# Altium footprint library Components - 29.10.25 - 16.30.PcbLib: 4 footprints
Each footprint in its own frame and in the unit in brackets; x right, y up, seen from the top. Pads: shape width x height; smd on the part's side, far side on the other; paste and mask are expansions set on the pad; w line width, h text height; cw(c..) or ccw(c..) is an arc to the next point about the centre after c.
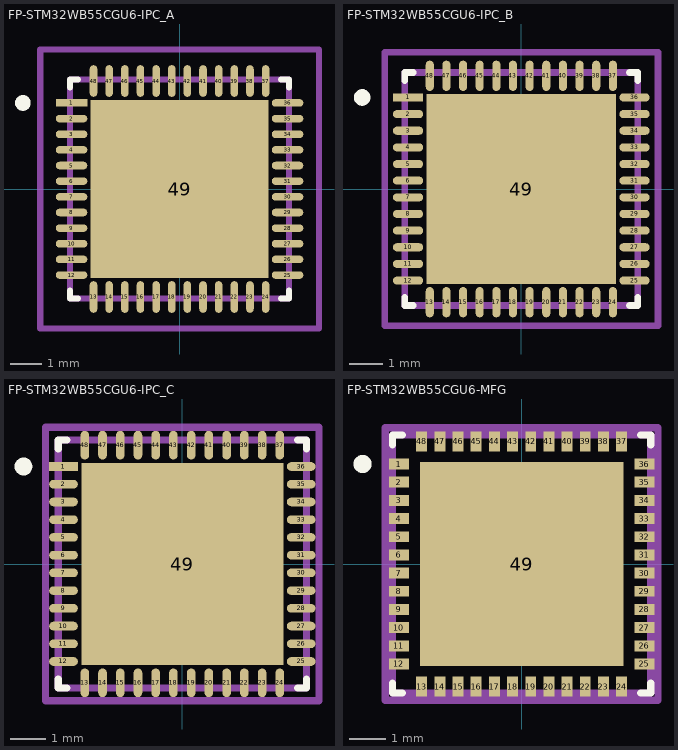
[diagram p0: the footprints below, top view; thin cyan lines are the x and y axes]

## FP-STM32WB55CGU6-IPC_A [mm]
pads (49):
  rect 1.01x0.242 smd paste+0 mask+0: 1(-3.451,2.75)
  rrect100% 1.01x0.242 smd paste+0 mask+0: 2(-3.451,2.25) 3(-3.451,1.75) 4(-3.451,1.25) 5(-3.451,0.75) 6(-3.451,0.25) 7(-3.451,-0.25) 8(-3.451,-0.75) 9(-3.451,-1.25) 10(-3.451,-1.75) 11(-3.451,-2.25) 12(-3.451,-2.75) 25(3.451,-2.75) 26(3.451,-2.25) 27(3.451,-1.75) 28(3.451,-1.25) 29(3.451,-0.75) 30(3.451,-0.25) 31(3.451,0.25) 32(3.451,0.75) 33(3.451,1.25) 34(3.451,1.75) 35(3.451,2.25) 36(3.451,2.75)
  rrect100% 0.242x1.01 smd paste+0 mask+0: 13(-2.75,-3.451) 14(-2.25,-3.451) 15(-1.75,-3.451) 16(-1.25,-3.451) 17(-0.75,-3.451) 18(-0.25,-3.451) 19(0.25,-3.451) 20(0.75,-3.451) 21(1.25,-3.451) 22(1.75,-3.451) 23(2.25,-3.451) 24(2.75,-3.451) 37(2.75,3.451) 38(2.25,3.451) 39(1.75,3.451) 40(1.25,3.451) 41(0.75,3.451) 42(0.25,3.451) 43(-0.25,3.451) 44(-0.75,3.451) 45(-1.25,3.451) 46(-1.75,3.451) 47(-2.25,3.451) 48(-2.75,3.451)
  rect 5.7x5.7 smd paste-1000 mask+0: 49(0,0)
Top Overlay:
  circle w0.25: c-5.006,2.75 r0.125
  lines w0.2: -3.5,-3.25 -3.5,-3.5 -3.25,-3.5 ; -3.5,3.25 -3.5,3.5 -3.25,3.5 ; 3.25,-3.5 3.5,-3.5 3.5,-3.25 ; 3.25,3.5 3.5,3.5 3.5,3.25
Top Paste:
  rectangle: -2.152,0.349 -0.349,2.152
  rectangle: 0.349,0.349 2.152,2.152
  rectangle: -2.152,-2.152 -0.349,-0.349
  rectangle: 0.349,-2.152 2.152,-0.349
Top Assembly:
  lines w0.2: -4.456,-4.456 4.456,-4.456 4.456,4.456 -4.456,4.456 -4.456,-4.456
  text ".Designator" at 0,-0.001 h1
Top 3D Body:
  lines w0.2: -3.5,-3.5 3.5,-3.5 3.5,3.5 -3.5,3.5 -3.5,-3.5
Top Courtyard:
  lines w0.2: -4.456,-4.456 4.456,-4.456 4.456,4.456 -4.456,4.456 -4.456,-4.456
Top Component Center:
  lines w0.1: -0.5,0 0.5,0 ; 0,-0.5 0,0.5
3D body "IC_STMicroelectronics_STM32WB55CGU6_eec.STEP": height 0.25, standoff 0, extent -4.456,-4.456 4.456,4.456

## FP-STM32WB55CGU6-IPC_B [mm]
pads (49):
  rect 0.91x0.242 smd paste+0 mask+0: 1(-3.401,2.75)
  rrect100% 0.91x0.242 smd paste+0 mask+0: 2(-3.401,2.25) 3(-3.401,1.75) 4(-3.401,1.25) 5(-3.401,0.75) 6(-3.401,0.25) 7(-3.401,-0.25) 8(-3.401,-0.75) 9(-3.401,-1.25) 10(-3.401,-1.75) 11(-3.401,-2.25) 12(-3.401,-2.75) 25(3.401,-2.75) 26(3.401,-2.25) 27(3.401,-1.75) 28(3.401,-1.25) 29(3.401,-0.75) 30(3.401,-0.25) 31(3.401,0.25) 32(3.401,0.75) 33(3.401,1.25) 34(3.401,1.75) 35(3.401,2.25) 36(3.401,2.75)
  rrect100% 0.242x0.91 smd paste+0 mask+0: 13(-2.75,-3.401) 14(-2.25,-3.401) 15(-1.75,-3.401) 16(-1.25,-3.401) 17(-0.75,-3.401) 18(-0.25,-3.401) 19(0.25,-3.401) 20(0.75,-3.401) 21(1.25,-3.401) 22(1.75,-3.401) 23(2.25,-3.401) 24(2.75,-3.401) 37(2.75,3.401) 38(2.25,3.401) 39(1.75,3.401) 40(1.25,3.401) 41(0.75,3.401) 42(0.25,3.401) 43(-0.25,3.401) 44(-0.75,3.401) 45(-1.25,3.401) 46(-1.75,3.401) 47(-2.25,3.401) 48(-2.75,3.401)
  rect 5.7x5.7 smd paste-1000 mask+0: 49(0,0)
Top Overlay:
  circle w0.25: c-4.781,2.75 r0.125
  lines w0.2: -3.5,-3.25 -3.5,-3.5 -3.25,-3.5 ; -3.5,3.25 -3.5,3.5 -3.25,3.5 ; 3.25,-3.5 3.5,-3.5 3.5,-3.25 ; 3.25,3.5 3.5,3.5 3.5,3.25
Top Paste:
  rectangle: -2.152,0.349 -0.349,2.152
  rectangle: 0.349,0.349 2.152,2.152
  rectangle: -2.152,-2.152 -0.349,-0.349
  rectangle: 0.349,-2.152 2.152,-0.349
Top Assembly:
  lines w0.2: -4.106,-4.106 4.106,-4.106 4.106,4.106 -4.106,4.106 -4.106,-4.106
  text ".Designator" at 0,-0.001 h1
Top 3D Body:
  lines w0.2: -3.5,-3.5 3.5,-3.5 3.5,3.5 -3.5,3.5 -3.5,-3.5
Top Courtyard:
  lines w0.2: -4.106,-4.106 4.106,-4.106 4.106,4.106 -4.106,4.106 -4.106,-4.106
Top Component Center:
  lines w0.1: -0.5,0 0.5,0 ; 0,-0.5 0,0.5
3D body "IC_STMicroelectronics_STM32WB55CGU6_eec.STEP": height 0.25, standoff 0, extent -4.106,-4.106 4.106,4.106

## FP-STM32WB55CGU6-IPC_C [mm]
pads (49):
  rect 0.81x0.242 smd paste+0 mask+0: 1(-3.351,2.75)
  rrect100% 0.81x0.242 smd paste+0 mask+0: 2(-3.351,2.25) 3(-3.351,1.75) 4(-3.351,1.25) 5(-3.351,0.75) 6(-3.351,0.25) 7(-3.351,-0.25) 8(-3.351,-0.75) 9(-3.351,-1.25) 10(-3.351,-1.75) 11(-3.351,-2.25) 12(-3.351,-2.75) 25(3.351,-2.75) 26(3.351,-2.25) 27(3.351,-1.75) 28(3.351,-1.25) 29(3.351,-0.75) 30(3.351,-0.25) 31(3.351,0.25) 32(3.351,0.75) 33(3.351,1.25) 34(3.351,1.75) 35(3.351,2.25) 36(3.351,2.75)
  rrect100% 0.242x0.81 smd paste+0 mask+0: 13(-2.75,-3.351) 14(-2.25,-3.351) 15(-1.75,-3.351) 16(-1.25,-3.351) 17(-0.75,-3.351) 18(-0.25,-3.351) 19(0.25,-3.351) 20(0.75,-3.351) 21(1.25,-3.351) 22(1.75,-3.351) 23(2.25,-3.351) 24(2.75,-3.351) 37(2.75,3.351) 38(2.25,3.351) 39(1.75,3.351) 40(1.25,3.351) 41(0.75,3.351) 42(0.25,3.351) 43(-0.25,3.351) 44(-0.75,3.351) 45(-1.25,3.351) 46(-1.75,3.351) 47(-2.25,3.351) 48(-2.75,3.351)
  rect 5.7x5.7 smd paste-1000 mask+0: 49(0,0)
Top Overlay:
  circle w0.25: c-4.481,2.75 r0.125
  lines w0.2: -3.5,-3.25 -3.5,-3.5 -3.25,-3.5 ; -3.5,3.25 -3.5,3.5 -3.25,3.5 ; 3.25,-3.5 3.5,-3.5 3.5,-3.25 ; 3.25,3.5 3.5,3.5 3.5,3.25
Top Paste:
  rectangle: -2.152,0.349 -0.349,2.152
  rectangle: 0.349,0.349 2.152,2.152
  rectangle: -2.152,-2.152 -0.349,-0.349
  rectangle: 0.349,-2.152 2.152,-0.349
Top Assembly:
  lines w0.2: -3.856,-3.856 3.856,-3.856 3.856,3.856 -3.856,3.856 -3.856,-3.856
  text ".Designator" at 0,-0.001 h1
Top 3D Body:
  lines w0.2: -3.5,-3.5 3.5,-3.5 3.5,3.5 -3.5,3.5 -3.5,-3.5
Top Courtyard:
  lines w0.2: -3.856,-3.856 3.856,-3.856 3.856,3.856 -3.856,3.856 -3.856,-3.856
Top Component Center:
  lines w0.1: -0.5,0 0.5,0 ; 0,-0.5 0,0.5
3D body "IC_STMicroelectronics_STM32WB55CGU6_eec.STEP": height 0.25, standoff 0, extent -3.856,-3.856 3.856,3.856

## FP-STM32WB55CGU6-MFG [mm]
pads (49):
  rect 0.55x0.3 smd paste+0 mask+0: 1(-3.375,2.75) 2(-3.375,2.25) 3(-3.375,1.75) 4(-3.375,1.25) 5(-3.375,0.75) 6(-3.375,0.25) 7(-3.375,-0.25) 8(-3.375,-0.75) 9(-3.375,-1.25) 10(-3.375,-1.75) 11(-3.375,-2.25) 12(-3.375,-2.75) 25(3.375,-2.75) 26(3.375,-2.25) 27(3.375,-1.75) 28(3.375,-1.25) 29(3.375,-0.75) 30(3.375,-0.25) 31(3.375,0.25) 32(3.375,0.75) 33(3.375,1.25) 34(3.375,1.75) 35(3.375,2.25) 36(3.375,2.75)
  rect 0.3x0.55 smd paste+0 mask+0: 13(-2.75,-3.375) 14(-2.25,-3.375) 15(-1.75,-3.375) 16(-1.25,-3.375) 17(-0.75,-3.375) 18(-0.25,-3.375) 19(0.25,-3.375) 20(0.75,-3.375) 21(1.25,-3.375) 22(1.75,-3.375) 23(2.25,-3.375) 24(2.75,-3.375) 37(2.75,3.375) 38(2.25,3.375) 39(1.75,3.375) 40(1.25,3.375) 41(0.75,3.375) 42(0.25,3.375) 43(-0.25,3.375) 44(-0.75,3.375) 45(-1.25,3.375) 46(-1.75,3.375) 47(-2.25,3.375) 48(-2.75,3.375)
  rect 5.6x5.6 smd paste+0 mask+0: 49(0,0)
Top Overlay:
  circle w0.25: c-4.375,2.75 r0.125
  lines w0.2: -3.55,-3.275 -3.55,-3.55 -3.275,-3.55 ; -3.55,3.275 -3.55,3.55 -3.275,3.55 ; 3.275,-3.55 3.55,-3.55 3.55,-3.275 ; 3.275,3.55 3.55,3.55 3.55,3.275
Top Assembly:
  lines w0.2: -3.75,-3.75 3.75,-3.75 3.75,3.75 -3.75,3.75 -3.75,-3.75
  text ".Designator" at 0,0.188 h1
Top 3D Body:
  lines w0.2: -3.55,-3.55 3.55,-3.55 3.55,3.55 -3.55,3.55 -3.55,-3.55
Top Courtyard:
  lines w0.2: -3.75,-3.75 3.75,-3.75 3.75,3.75 -3.75,3.75 -3.75,-3.75
Top Component Center:
  lines w0.1: -0.5,0 0.5,0 ; 0,-0.5 0,0.5
3D body "IC_STMicroelectronics_STM32WB55CGU6_eec.STEP": height 0.25, standoff 0, extent -3.75,-3.75 3.75,3.75